# Altium integrated library Linear Technology PMIC-Switching Reg LT1074-LT8705.IntLib: 2252 symbols (part 71 of 124)
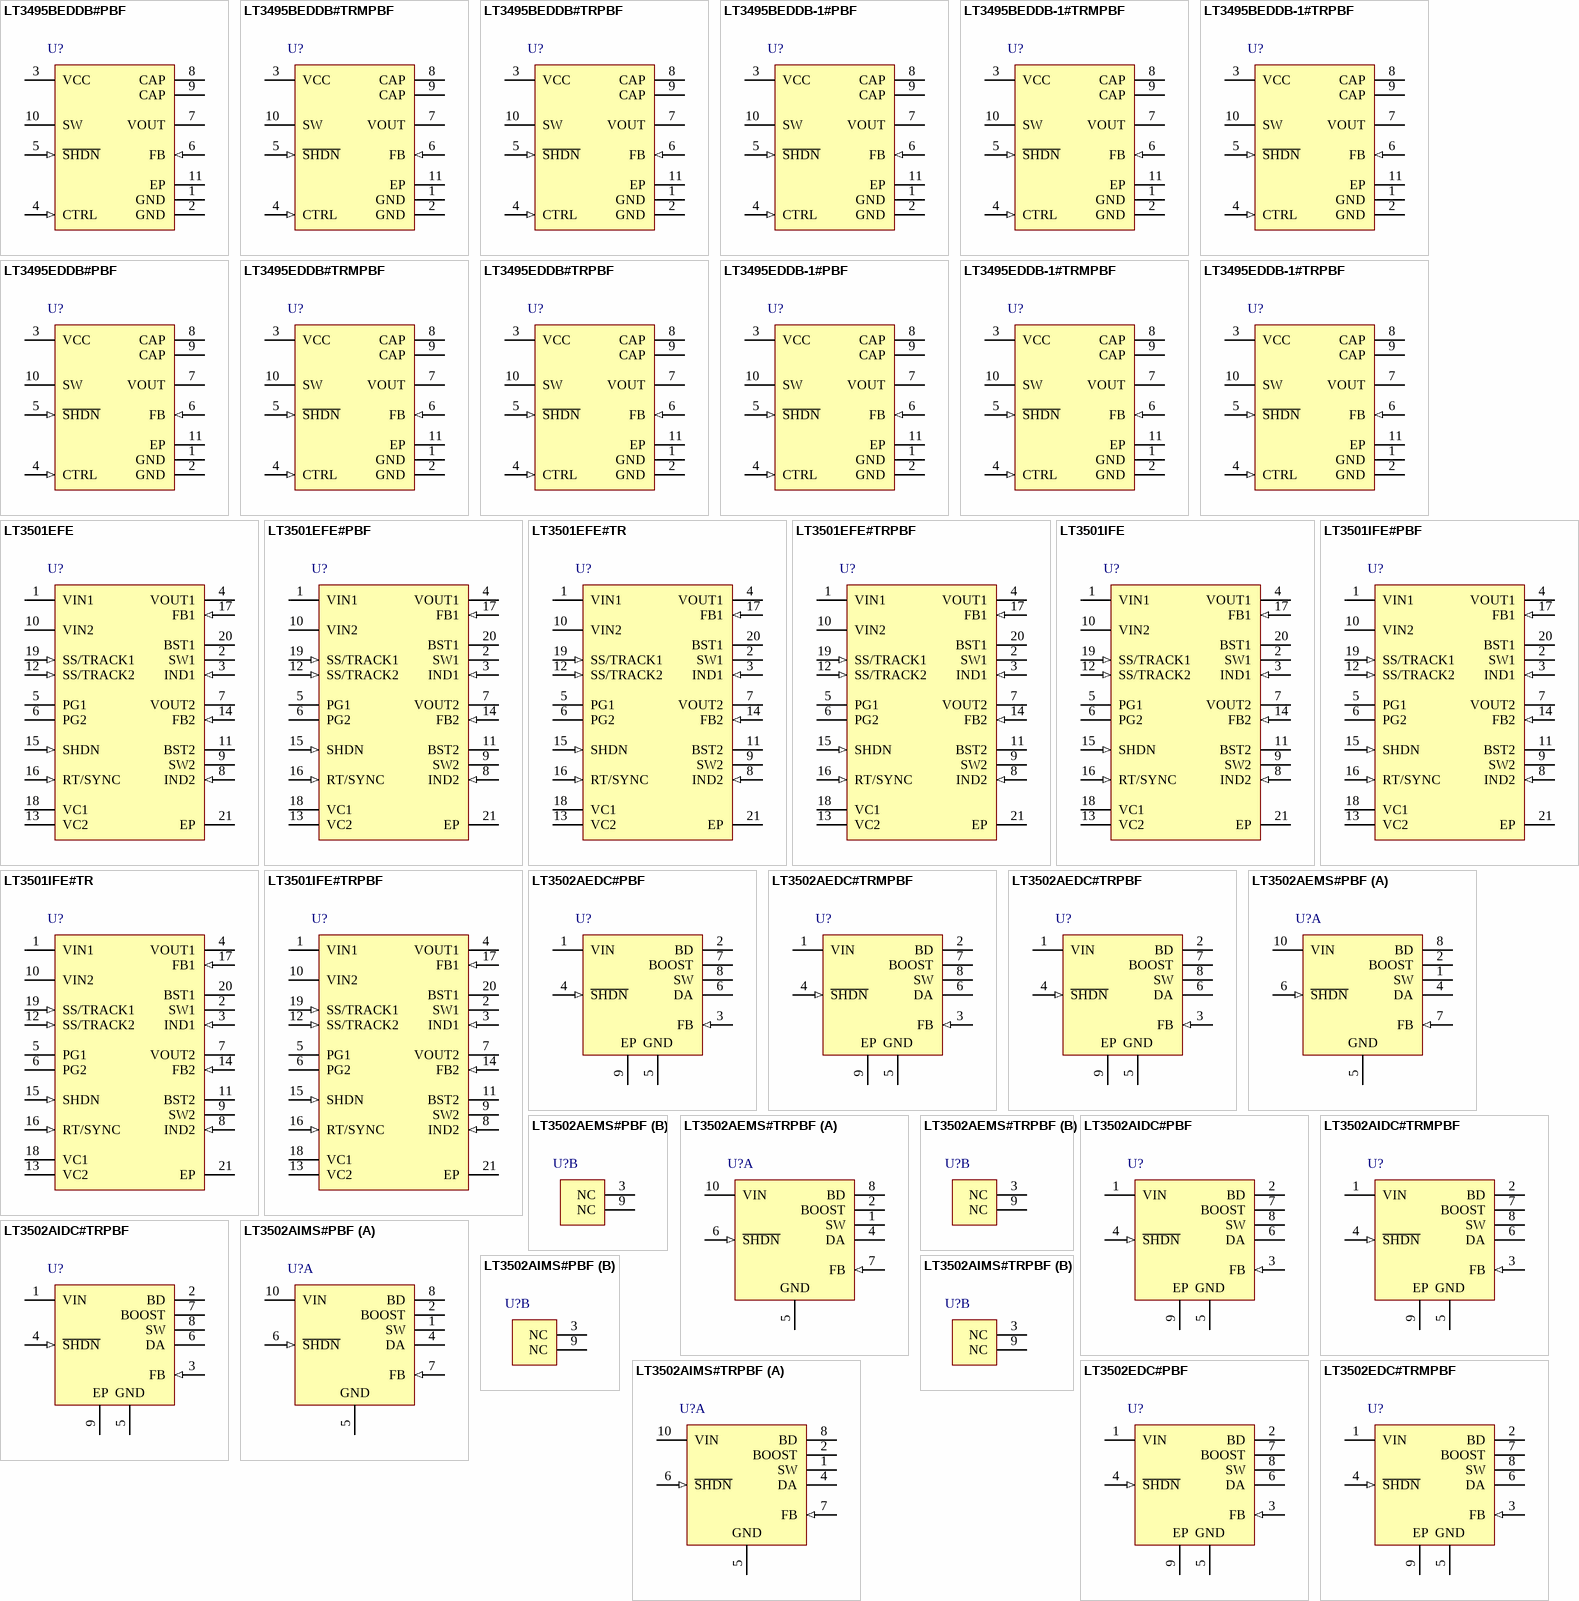
[diagram p141: symbols LT3495BEDDB#PBF to LT3502EDC#TRMPBF]

## LT3501IFE#PBF
designator U?
Monolithic Dual Tracking 3 A Step-Down Switching Regulator, 20-pin SOP (FE-20-EPV-CB), -40 to 125 degC, Pb-Free; Manufacturer: Linear Technology; PartNumber: LT3501IFE#PBF; Number of Outputs: 2; PackageReference: FE-20; PackageDescription: 20-Pin Plastic TSSOP, Body 6.5 x 4.4 mm, Pitch 0.65 mm; Supplier 1: Digi-Key; Supplier Part Number 1: LT3501IFE#PBF-ND; RoHS: TRUE
footprint LT-FE-20-EPV-CB_N (SOP, 20-Leads, Body 6.6x4.5mm, Pitch 0.65mm, Thermal Pad 3.86x2.74mm, IPC Medium Density)
footprint LT-FE-20-EPV-CB_L (SOP, 20-Leads, Body 6.6x4.5mm, Pitch 0.65mm, Thermal Pad 3.86x2.74mm, IPC High Density)
footprint LT-FE-20-EPV-CB_M (SOP, 20-Leads, Body 6.6x4.5mm, Pitch 0.65mm, Thermal Pad 3.86x2.74mm, IPC Low Density)
pins: 1 VIN1 (power) "The VIN1 pin powers the internal control circuitry for both channels and is monitored by the undervoltage lockout comparator. The VIN1 pin is also connected to the collector of channel 1’s on-chip power NPN switch. Th(See Datasheet)", 2 SW1 "The SW pin is the emitter of the onchip power NPN. At switch-off, the inductor will drive this pin below ground with a high dV/dt. An external Schottky catch diode to ground, close to the SW pin and respective VIN decoupling (See Datasheet)", 3 IND1 (in) "The IND pin is the input to the on-chip sense resistor that measures current flowing in the inductor. When the current in the resistor exceeds the current dictated by the VC pin, the SW latch is held in reset, disabling the (See Datasheet)", 4 VOUT1 (power) "The VOUT pin is the output to the on-chip sense resistor that measures current flowing in the inductor. When the current in the resistor exceeds the current dictated by the VC pin, the SW latch is held in reset, disabling (See Datasheet)", 5 PG1 (oc) "The power good pin is an open-collector output that sinks current when the feedback falls below 90% of its nominal regulating voltage. For VIN1 above 1V, its output state remains true, although during shutdown, VIN1 (See Datasheet)", 6 PG2 (oc) "The power good pin is an open-collector output that sinks current when the feedback falls below 90% of its nominal regulating voltage. For VIN1 above 1V, its output state remains true, although during shutdown, VIN1 (See Datasheet)", 7 VOUT2 (power) "The VOUT pin is the output to the on-chip sense resistor that measures current flowing in the inductor. When the current in the resistor exceeds the current dictated by the VC pin, the SW latch is held in reset, disabling (See Datasheet)", 8 IND2 (in) "The IND pin is the input to the on-chip sense resistor that measures current flowing in the inductor. When the current in the resistor exceeds the current dictated by the VC pin, the SW latch is held in reset, disabling the (See Datasheet)", 9 SW2 "The SW pin is the emitter of the onchip power NPN. At switch-off, the inductor will drive this pin below ground with a high dV/dt. An external Schottky catch diode to ground, close to the SW pin and respective VIN decoupling (See Datasheet)", 10 VIN2 (power) "The VIN2 pin is the collector of channel 2’s on-chip power NPN switch. This pin is independent of VIN1 and may be connected to the same or a separate supply. In either case, high dI/dt edges are present and decoupling t(See Datasheet)", 11 BST2 "The BST pin provides a higher than VIN base drive to the power NPN to ensure a low switch drop. A comparator to VIN imposes a minimum off-time on the SW pin if the BST pin voltage drops too low. Forcing a SW off-time allows (See Datasheet)", 12 SS/TRACK2 (in) "The SS1/2 pins control the softstart and sequence of their respective outputs. A single capacitor from the SS pin to ground determines the output ramp rate. For soft-start and output tracking/sequencing details, see the (See Datasheet)", 13 VC2 "The VC pin is the output of the error amplifier and the input to the peak switch current  comparator. It is normally used for frequency compensation, but can also be used as a current clamp or control loop override. If the (See Datasheet)", 14 FB2 (in) "The FB pin is the negative input to the error amplifier. The output switches regulate this pin to 0.8V, with respect to the exposed ground pad. Bias current flows out of the FB pin.", 15 SHDN (in) "The shutdown pin is used to turn off both channels and control circuitry to reduce quiescent current to a typical value of 9uA. The accurate 1.28V threshold and input current hysteresis can be used as an undervoltage (See Datasheet)", 16 RT/SYNC (in) "This RT/SYNC pin provides two modes of setting the constant switch frequency.", 17 FB1 (in) "The FB pin is the negative input to the error amplifier. The output switches regulate this pin to 0.8V, with respect to the exposed ground pad. Bias current flows out of the FB pin.", 18 VC1 "The VC pin is the output of the error amplifier and the input to the peak switch current  comparator. It is normally used for frequency compensation, but can also be used as a current clamp or control loop override. If the (See Datasheet)", 19 SS/TRACK1 (in) "The SS1/2 pins control the softstart and sequence of their respective outputs. A single capacitor from the SS pin to ground determines the output ramp rate. For soft-start and output tracking/sequencing details, see the (See Datasheet)", 20 BST1 "The BST pin provides a higher than VIN base drive to the power NPN to ensure a low switch drop. A comparator to VIN imposes a minimum off-time on the SW pin if the BST pin voltage drops too low. Forcing a SW off-time allows (See Datasheet)", 21 EP (power) "GND. The Exposed Pad GND pin is the only ground connection for the device. The Exposed Pad should be soldered to a large copper area to reduce thermal resistance. The GND pin is common to both channels and also serves as (See Datasheet)"

## LT3501IFE#TR
designator U?
Monolithic Dual Tracking 3 A Step-Down Switching Regulator, 20-pin SOP (FE-20-EPV-CB), -40 to 125 degC, Tape and Reel; Manufacturer: Linear Technology; PartNumber: LT3501IFE#TR; Number of Outputs: 2; PackageReference: FE-20; PackageDescription: 20-Pin Plastic TSSOP, Body 6.5 x 4.4 mm, Pitch 0.65 mm; Supplier 1: Newark; Supplier Part Number 1: 58M1028; RoHS: FALSE
footprint LT-FE-20-EPV-CB_N (SOP, 20-Leads, Body 6.6x4.5mm, Pitch 0.65mm, Thermal Pad 3.86x2.74mm, IPC Medium Density)
footprint LT-FE-20-EPV-CB_L (SOP, 20-Leads, Body 6.6x4.5mm, Pitch 0.65mm, Thermal Pad 3.86x2.74mm, IPC High Density)
footprint LT-FE-20-EPV-CB_M (SOP, 20-Leads, Body 6.6x4.5mm, Pitch 0.65mm, Thermal Pad 3.86x2.74mm, IPC Low Density)
pins: 1 VIN1 (power) "The VIN1 pin powers the internal control circuitry for both channels and is monitored by the undervoltage lockout comparator. The VIN1 pin is also connected to the collector of channel 1’s on-chip power NPN switch. Th(See Datasheet)", 2 SW1 "The SW pin is the emitter of the onchip power NPN. At switch-off, the inductor will drive this pin below ground with a high dV/dt. An external Schottky catch diode to ground, close to the SW pin and respective VIN decoupling (See Datasheet)", 3 IND1 (in) "The IND pin is the input to the on-chip sense resistor that measures current flowing in the inductor. When the current in the resistor exceeds the current dictated by the VC pin, the SW latch is held in reset, disabling the (See Datasheet)", 4 VOUT1 (power) "The VOUT pin is the output to the on-chip sense resistor that measures current flowing in the inductor. When the current in the resistor exceeds the current dictated by the VC pin, the SW latch is held in reset, disabling (See Datasheet)", 5 PG1 (oc) "The power good pin is an open-collector output that sinks current when the feedback falls below 90% of its nominal regulating voltage. For VIN1 above 1V, its output state remains true, although during shutdown, VIN1 (See Datasheet)", 6 PG2 (oc) "The power good pin is an open-collector output that sinks current when the feedback falls below 90% of its nominal regulating voltage. For VIN1 above 1V, its output state remains true, although during shutdown, VIN1 (See Datasheet)", 7 VOUT2 (power) "The VOUT pin is the output to the on-chip sense resistor that measures current flowing in the inductor. When the current in the resistor exceeds the current dictated by the VC pin, the SW latch is held in reset, disabling (See Datasheet)", 8 IND2 (in) "The IND pin is the input to the on-chip sense resistor that measures current flowing in the inductor. When the current in the resistor exceeds the current dictated by the VC pin, the SW latch is held in reset, disabling the (See Datasheet)", 9 SW2 "The SW pin is the emitter of the onchip power NPN. At switch-off, the inductor will drive this pin below ground with a high dV/dt. An external Schottky catch diode to ground, close to the SW pin and respective VIN decoupling (See Datasheet)", 10 VIN2 (power) "The VIN2 pin is the collector of channel 2’s on-chip power NPN switch. This pin is independent of VIN1 and may be connected to the same or a separate supply. In either case, high dI/dt edges are present and decoupling t(See Datasheet)", 11 BST2 "The BST pin provides a higher than VIN base drive to the power NPN to ensure a low switch drop. A comparator to VIN imposes a minimum off-time on the SW pin if the BST pin voltage drops too low. Forcing a SW off-time allows (See Datasheet)", 12 SS/TRACK2 (in) "The SS1/2 pins control the softstart and sequence of their respective outputs. A single capacitor from the SS pin to ground determines the output ramp rate. For soft-start and output tracking/sequencing details, see the (See Datasheet)", 13 VC2 "The VC pin is the output of the error amplifier and the input to the peak switch current  comparator. It is normally used for frequency compensation, but can also be used as a current clamp or control loop override. If the (See Datasheet)", 14 FB2 (in) "The FB pin is the negative input to the error amplifier. The output switches regulate this pin to 0.8V, with respect to the exposed ground pad. Bias current flows out of the FB pin.", 15 SHDN (in) "The shutdown pin is used to turn off both channels and control circuitry to reduce quiescent current to a typical value of 9uA. The accurate 1.28V threshold and input current hysteresis can be used as an undervoltage (See Datasheet)", 16 RT/SYNC (in) "This RT/SYNC pin provides two modes of setting the constant switch frequency.", 17 FB1 (in) "The FB pin is the negative input to the error amplifier. The output switches regulate this pin to 0.8V, with respect to the exposed ground pad. Bias current flows out of the FB pin.", 18 VC1 "The VC pin is the output of the error amplifier and the input to the peak switch current  comparator. It is normally used for frequency compensation, but can also be used as a current clamp or control loop override. If the (See Datasheet)", 19 SS/TRACK1 (in) "The SS1/2 pins control the softstart and sequence of their respective outputs. A single capacitor from the SS pin to ground determines the output ramp rate. For soft-start and output tracking/sequencing details, see the (See Datasheet)", 20 BST1 "The BST pin provides a higher than VIN base drive to the power NPN to ensure a low switch drop. A comparator to VIN imposes a minimum off-time on the SW pin if the BST pin voltage drops too low. Forcing a SW off-time allows (See Datasheet)", 21 EP (power) "GND. The Exposed Pad GND pin is the only ground connection for the device. The Exposed Pad should be soldered to a large copper area to reduce thermal resistance. The GND pin is common to both channels and also serves as (See Datasheet)"

## LT3501IFE#TRPBF
designator U?
Monolithic Dual Tracking 3 A Step-Down Switching Regulator, 20-pin SOP (FE-20-EPV-CB), -40 to 125 degC, Pb-Free, Tape and Reel; Manufacturer: Linear Technology; PartNumber: LT3501IFE#TRPBF; Number of Outputs: 2; PackageReference: FE-20; PackageDescription: 20-Pin Plastic TSSOP, Body 6.5 x 4.4 mm, Pitch 0.65 mm; Supplier 1: Digi-Key; Supplier Part Number 1: LT3501IFE#TRPBF-ND; RoHS: TRUE
footprint LT-FE-20-EPV-CB_N (SOP, 20-Leads, Body 6.6x4.5mm, Pitch 0.65mm, Thermal Pad 3.86x2.74mm, IPC Medium Density)
footprint LT-FE-20-EPV-CB_L (SOP, 20-Leads, Body 6.6x4.5mm, Pitch 0.65mm, Thermal Pad 3.86x2.74mm, IPC High Density)
footprint LT-FE-20-EPV-CB_M (SOP, 20-Leads, Body 6.6x4.5mm, Pitch 0.65mm, Thermal Pad 3.86x2.74mm, IPC Low Density)
pins: 1 VIN1 (power) "The VIN1 pin powers the internal control circuitry for both channels and is monitored by the undervoltage lockout comparator. The VIN1 pin is also connected to the collector of channel 1’s on-chip power NPN switch. Th(See Datasheet)", 2 SW1 "The SW pin is the emitter of the onchip power NPN. At switch-off, the inductor will drive this pin below ground with a high dV/dt. An external Schottky catch diode to ground, close to the SW pin and respective VIN decoupling (See Datasheet)", 3 IND1 (in) "The IND pin is the input to the on-chip sense resistor that measures current flowing in the inductor. When the current in the resistor exceeds the current dictated by the VC pin, the SW latch is held in reset, disabling the (See Datasheet)", 4 VOUT1 (power) "The VOUT pin is the output to the on-chip sense resistor that measures current flowing in the inductor. When the current in the resistor exceeds the current dictated by the VC pin, the SW latch is held in reset, disabling (See Datasheet)", 5 PG1 (oc) "The power good pin is an open-collector output that sinks current when the feedback falls below 90% of its nominal regulating voltage. For VIN1 above 1V, its output state remains true, although during shutdown, VIN1 (See Datasheet)", 6 PG2 (oc) "The power good pin is an open-collector output that sinks current when the feedback falls below 90% of its nominal regulating voltage. For VIN1 above 1V, its output state remains true, although during shutdown, VIN1 (See Datasheet)", 7 VOUT2 (power) "The VOUT pin is the output to the on-chip sense resistor that measures current flowing in the inductor. When the current in the resistor exceeds the current dictated by the VC pin, the SW latch is held in reset, disabling (See Datasheet)", 8 IND2 (in) "The IND pin is the input to the on-chip sense resistor that measures current flowing in the inductor. When the current in the resistor exceeds the current dictated by the VC pin, the SW latch is held in reset, disabling the (See Datasheet)", 9 SW2 "The SW pin is the emitter of the onchip power NPN. At switch-off, the inductor will drive this pin below ground with a high dV/dt. An external Schottky catch diode to ground, close to the SW pin and respective VIN decoupling (See Datasheet)", 10 VIN2 (power) "The VIN2 pin is the collector of channel 2’s on-chip power NPN switch. This pin is independent of VIN1 and may be connected to the same or a separate supply. In either case, high dI/dt edges are present and decoupling t(See Datasheet)", 11 BST2 "The BST pin provides a higher than VIN base drive to the power NPN to ensure a low switch drop. A comparator to VIN imposes a minimum off-time on the SW pin if the BST pin voltage drops too low. Forcing a SW off-time allows (See Datasheet)", 12 SS/TRACK2 (in) "The SS1/2 pins control the softstart and sequence of their respective outputs. A single capacitor from the SS pin to ground determines the output ramp rate. For soft-start and output tracking/sequencing details, see the (See Datasheet)", 13 VC2 "The VC pin is the output of the error amplifier and the input to the peak switch current  comparator. It is normally used for frequency compensation, but can also be used as a current clamp or control loop override. If the (See Datasheet)", 14 FB2 (in) "The FB pin is the negative input to the error amplifier. The output switches regulate this pin to 0.8V, with respect to the exposed ground pad. Bias current flows out of the FB pin.", 15 SHDN (in) "The shutdown pin is used to turn off both channels and control circuitry to reduce quiescent current to a typical value of 9uA. The accurate 1.28V threshold and input current hysteresis can be used as an undervoltage (See Datasheet)", 16 RT/SYNC (in) "This RT/SYNC pin provides two modes of setting the constant switch frequency.", 17 FB1 (in) "The FB pin is the negative input to the error amplifier. The output switches regulate this pin to 0.8V, with respect to the exposed ground pad. Bias current flows out of the FB pin.", 18 VC1 "The VC pin is the output of the error amplifier and the input to the peak switch current  comparator. It is normally used for frequency compensation, but can also be used as a current clamp or control loop override. If the (See Datasheet)", 19 SS/TRACK1 (in) "The SS1/2 pins control the softstart and sequence of their respective outputs. A single capacitor from the SS pin to ground determines the output ramp rate. For soft-start and output tracking/sequencing details, see the (See Datasheet)", 20 BST1 "The BST pin provides a higher than VIN base drive to the power NPN to ensure a low switch drop. A comparator to VIN imposes a minimum off-time on the SW pin if the BST pin voltage drops too low. Forcing a SW off-time allows (See Datasheet)", 21 EP (power) "GND. The Exposed Pad GND pin is the only ground connection for the device. The Exposed Pad should be soldered to a large copper area to reduce thermal resistance. The GND pin is common to both channels and also serves as (See Datasheet)"

## LT3502AEDC#PBF
designator U?
1.1 MHz / 2.2 MHz, 500 mA Step-Down Regulator, 8-pin SON (DC8), -40 to 125 degC, Pb-Free; Manufacturer: Linear Technology; PartNumber: LT3502AEDC#PBF; Number of Outputs: 1; PackageReference: DC8; PackageDescription: 8-Pin Plastic DFN, Body 2 x 2 mm, Pitch 0.45 mm; Supplier 1: Farnell; Supplier Part Number 1: 2294920; RoHS: TRUE
footprint LT-DC8_V (SON, 8-Leads, Body 2x2mm, Pitch 0.45mm, Thermal Pad 1.37x0.64mm, Recommended)
pins: 1 VIN (power) "The VIN pin supplies current to the LT3502/LT3502A’s internal regulator and to the internal power switch. This pin must be locally bypassed.", 2 BD (power) "The BD pin is used to provide current to the internal boost Schottky diode.", 3 FB (in) "The LT3502/LT3502A regulate their feedback pin to 0.8V. Connect the feedback resistor divider tap to this pin. Set the output voltage according to VOUT = 0.8 (1 + R1/R2). A good value for R2 is 10k.", 4 ~{SHDN} (in) "The S\H\D\N\ pin is used to put the LT3502 in shutdown mode. Tie to ground to shut down the LT3502/LT3502A. Tie to 2V or more for normal operation. If the shutdown feature is not used, tie this pin to the VIN pin. The (See Datasheet)", 5 GND (power) "Ground Pin.", 6 DA "Connect the catch diode (D1) anode to this pin. This pin is used to provide frequency foldback in extreme situations.", 7 BOOST "The BOOST pin is used to provide a drive voltage, higher than the input voltage, to the internal bipolar NPN power switch. Connect a boost capacitor from this pin to SW Pin.", 8 SW (power) "The SW pin is the output of the internal power switch. Connect this pin to the inductor, catch diode and boost capacitor.", 9 EP (power) "EXPOSED PAD (PIN 9) IS GND, MUST BE SOLDERED TO PCB"

## LT3502AEDC#TRMPBF
designator U?
1.1 MHz / 2.2 MHz, 500 mA Step-Down Regulator, 8-pin SON (DC8), -40 to 125 degC, Pb-Free, Mini Tape and Reel; Manufacturer: Linear Technology; PartNumber: LT3502AEDC#TRMPBF; Number of Outputs: 1; PackageReference: DC8; PackageDescription: 8-Pin Plastic DFN, Body 2 x 2 mm, Pitch 0.45 mm; Supplier 1: Digi-Key; Supplier Part Number 1: LT3502AEDC#TRMPBFTR-ND; RoHS: TRUE
footprint LT-DC8_V (SON, 8-Leads, Body 2x2mm, Pitch 0.45mm, Thermal Pad 1.37x0.64mm, Recommended)
pins: 1 VIN (power) "The VIN pin supplies current to the LT3502/LT3502A’s internal regulator and to the internal power switch. This pin must be locally bypassed.", 2 BD (power) "The BD pin is used to provide current to the internal boost Schottky diode.", 3 FB (in) "The LT3502/LT3502A regulate their feedback pin to 0.8V. Connect the feedback resistor divider tap to this pin. Set the output voltage according to VOUT = 0.8 (1 + R1/R2). A good value for R2 is 10k.", 4 ~{SHDN} (in) "The S\H\D\N\ pin is used to put the LT3502 in shutdown mode. Tie to ground to shut down the LT3502/LT3502A. Tie to 2V or more for normal operation. If the shutdown feature is not used, tie this pin to the VIN pin. The (See Datasheet)", 5 GND (power) "Ground Pin.", 6 DA "Connect the catch diode (D1) anode to this pin. This pin is used to provide frequency foldback in extreme situations.", 7 BOOST "The BOOST pin is used to provide a drive voltage, higher than the input voltage, to the internal bipolar NPN power switch. Connect a boost capacitor from this pin to SW Pin.", 8 SW (power) "The SW pin is the output of the internal power switch. Connect this pin to the inductor, catch diode and boost capacitor.", 9 EP (power) "EXPOSED PAD (PIN 9) IS GND, MUST BE SOLDERED TO PCB"

## LT3502AEDC#TRPBF
designator U?
1.1 MHz / 2.2 MHz, 500 mA Step-Down Regulator, 8-pin SON (DC8), -40 to 125 degC, Pb-Free, Tape and Reel; Manufacturer: Linear Technology; PartNumber: LT3502AEDC#TRPBF; Number of Outputs: 1; PackageReference: DC8; PackageDescription: 8-Pin Plastic DFN, Body 2 x 2 mm, Pitch 0.45 mm; Supplier 1: Digi-Key; Supplier Part Number 1: LT3502AEDC#TRPBF-ND; RoHS: TRUE
footprint LT-DC8_V (SON, 8-Leads, Body 2x2mm, Pitch 0.45mm, Thermal Pad 1.37x0.64mm, Recommended)
pins: 1 VIN (power) "The VIN pin supplies current to the LT3502/LT3502A’s internal regulator and to the internal power switch. This pin must be locally bypassed.", 2 BD (power) "The BD pin is used to provide current to the internal boost Schottky diode.", 3 FB (in) "The LT3502/LT3502A regulate their feedback pin to 0.8V. Connect the feedback resistor divider tap to this pin. Set the output voltage according to VOUT = 0.8 (1 + R1/R2). A good value for R2 is 10k.", 4 ~{SHDN} (in) "The S\H\D\N\ pin is used to put the LT3502 in shutdown mode. Tie to ground to shut down the LT3502/LT3502A. Tie to 2V or more for normal operation. If the shutdown feature is not used, tie this pin to the VIN pin. The (See Datasheet)", 5 GND (power) "Ground Pin.", 6 DA "Connect the catch diode (D1) anode to this pin. This pin is used to provide frequency foldback in extreme situations.", 7 BOOST "The BOOST pin is used to provide a drive voltage, higher than the input voltage, to the internal bipolar NPN power switch. Connect a boost capacitor from this pin to SW Pin.", 8 SW (power) "The SW pin is the output of the internal power switch. Connect this pin to the inductor, catch diode and boost capacitor.", 9 EP (power) "EXPOSED PAD (PIN 9) IS GND, MUST BE SOLDERED TO PCB"

## LT3502AEMS#PBF
designator U?
1.1 MHz / 2.2 MHz, 500 mA Step-Down Regulator, 10-pin SOP (MS-10), -40 to 125 degC, Pb-Free; Manufacturer: Linear Technology; PartNumber: LT3502AEMS#PBF; Number of Outputs: 1; PackageReference: MS-10; PackageDescription: 10-Pin Plastic MSOP, Body 3 x 3 mm, Pitch 0.5 mm; Supplier 1: Digi-Key; Supplier Part Number 1: LT3502AEMS#PBF-ND; RoHS: TRUE
footprint LT-MS-10_N (SOP, 10-Leads, Body 3.1x3.1mm, Pitch 0.5mm, IPC Medium Density)
footprint LT-MS-10_L (SOP, 10-Leads, Body 3.1x3.1mm, Pitch 0.5mm, IPC High Density)
footprint LT-MS-10_M (SOP, 10-Leads, Body 3.1x3.1mm, Pitch 0.5mm, IPC Low Density)
part A pins: 1 SW (power) "The SW pin is the output of the internal power switch. Connect this pin to the inductor, catch diode and boost capacitor.", 2 BOOST "The BOOST pin is used to provide a drive voltage, higher than the input voltage, to the internal bipolar NPN power switch. Connect a boost capacitor from this pin to SW Pin.", 4 DA "Connect the catch diode (D1) anode to this pin. This pin is used to provide frequency foldback in extreme situations.", 5 GND (power) "Ground Pin.", 6 ~{SHDN} (in) "The S\H\D\N\ pin is used to put the LT3502 in shutdown mode. Tie to ground to shut down the LT3502/LT3502A. Tie to 2V or more for normal operation. If the shutdown feature is not used, tie this pin to the VIN pin. The (See Datasheet)", 7 FB (in) "The LT3502/LT3502A regulate their feedback pin to 0.8V. Connect the feedback resistor divider tap to this pin. Set the output voltage according to VOUT = 0.8 (1 + R1/R2). A good value for R2 is 10k.", 8 BD (power) "The BD pin is used to provide current to the internal boost Schottky diode.", 10 VIN (power) "The VIN pin supplies current to the LT3502/LT3502A’s internal regulator and to the internal power switch. This pin must be locally bypassed."
part B pins: 3 NC, 9 NC

## LT3502AEMS#TRPBF
designator U?
1.1 MHz / 2.2 MHz, 500 mA Step-Down Regulator, 10-pin SOP (MS-10), -40 to 125 degC, Pb-Free, Tape and Reel; Manufacturer: Linear Technology; PartNumber: LT3502AEMS#TRPBF; Number of Outputs: 1; PackageReference: MS-10; PackageDescription: 10-Pin Plastic MSOP, Body 3 x 3 mm, Pitch 0.5 mm; Supplier 1: Digi-Key; Supplier Part Number 1: LT3502AEMS#TRPBF-ND; RoHS: TRUE
footprint LT-MS-10_N (SOP, 10-Leads, Body 3.1x3.1mm, Pitch 0.5mm, IPC Medium Density)
footprint LT-MS-10_L (SOP, 10-Leads, Body 3.1x3.1mm, Pitch 0.5mm, IPC High Density)
footprint LT-MS-10_M (SOP, 10-Leads, Body 3.1x3.1mm, Pitch 0.5mm, IPC Low Density)
part A pins: 1 SW (power) "The SW pin is the output of the internal power switch. Connect this pin to the inductor, catch diode and boost capacitor.", 2 BOOST "The BOOST pin is used to provide a drive voltage, higher than the input voltage, to the internal bipolar NPN power switch. Connect a boost capacitor from this pin to SW Pin.", 4 DA "Connect the catch diode (D1) anode to this pin. This pin is used to provide frequency foldback in extreme situations.", 5 GND (power) "Ground Pin.", 6 ~{SHDN} (in) "The S\H\D\N\ pin is used to put the LT3502 in shutdown mode. Tie to ground to shut down the LT3502/LT3502A. Tie to 2V or more for normal operation. If the shutdown feature is not used, tie this pin to the VIN pin. The (See Datasheet)", 7 FB (in) "The LT3502/LT3502A regulate their feedback pin to 0.8V. Connect the feedback resistor divider tap to this pin. Set the output voltage according to VOUT = 0.8 (1 + R1/R2). A good value for R2 is 10k.", 8 BD (power) "The BD pin is used to provide current to the internal boost Schottky diode.", 10 VIN (power) "The VIN pin supplies current to the LT3502/LT3502A’s internal regulator and to the internal power switch. This pin must be locally bypassed."
part B pins: 3 NC, 9 NC

## LT3502AIDC#PBF
designator U?
1.1 MHz / 2.2 MHz, 500 mA Step-Down Regulator, 8-pin SON (DC8), -40 to 125 degC, Pb-Free; Manufacturer: Linear Technology; PartNumber: LT3502AIDC#PBF; Number of Outputs: 1; PackageReference: DC8; PackageDescription: 8-Pin Plastic DFN, Body 2 x 2 mm, Pitch 0.45 mm; Supplier 1: Farnell; Supplier Part Number 1: 2308611; RoHS: TRUE
footprint LT-DC8_V (SON, 8-Leads, Body 2x2mm, Pitch 0.45mm, Thermal Pad 1.37x0.64mm, Recommended)
pins: 1 VIN (power) "The VIN pin supplies current to the LT3502/LT3502A’s internal regulator and to the internal power switch. This pin must be locally bypassed.", 2 BD (power) "The BD pin is used to provide current to the internal boost Schottky diode.", 3 FB (in) "The LT3502/LT3502A regulate their feedback pin to 0.8V. Connect the feedback resistor divider tap to this pin. Set the output voltage according to VOUT = 0.8 (1 + R1/R2). A good value for R2 is 10k.", 4 ~{SHDN} (in) "The S\H\D\N\ pin is used to put the LT3502 in shutdown mode. Tie to ground to shut down the LT3502/LT3502A. Tie to 2V or more for normal operation. If the shutdown feature is not used, tie this pin to the VIN pin. The (See Datasheet)", 5 GND (power) "Ground Pin.", 6 DA "Connect the catch diode (D1) anode to this pin. This pin is used to provide frequency foldback in extreme situations.", 7 BOOST "The BOOST pin is used to provide a drive voltage, higher than the input voltage, to the internal bipolar NPN power switch. Connect a boost capacitor from this pin to SW Pin.", 8 SW (power) "The SW pin is the output of the internal power switch. Connect this pin to the inductor, catch diode and boost capacitor.", 9 EP (power) "EXPOSED PAD (PIN 9) IS GND, MUST BE SOLDERED TO PCB"

## LT3502AIDC#TRMPBF
designator U?
1.1 MHz / 2.2 MHz, 500 mA Step-Down Regulator, 8-pin SON (DC8), -40 to 125 degC, Pb-Free, Mini Tape and Reel; Manufacturer: Linear Technology; PartNumber: LT3502AIDC#TRMPBF; Number of Outputs: 1; PackageReference: DC8; PackageDescription: 8-Pin Plastic DFN, Body 2 x 2 mm, Pitch 0.45 mm; Supplier 1: Digi-Key; Supplier Part Number 1: LT3502AIDC#TRMPBFTR-ND; RoHS: TRUE
footprint LT-DC8_V (SON, 8-Leads, Body 2x2mm, Pitch 0.45mm, Thermal Pad 1.37x0.64mm, Recommended)
pins: 1 VIN (power) "The VIN pin supplies current to the LT3502/LT3502A’s internal regulator and to the internal power switch. This pin must be locally bypassed.", 2 BD (power) "The BD pin is used to provide current to the internal boost Schottky diode.", 3 FB (in) "The LT3502/LT3502A regulate their feedback pin to 0.8V. Connect the feedback resistor divider tap to this pin. Set the output voltage according to VOUT = 0.8 (1 + R1/R2). A good value for R2 is 10k.", 4 ~{SHDN} (in) "The S\H\D\N\ pin is used to put the LT3502 in shutdown mode. Tie to ground to shut down the LT3502/LT3502A. Tie to 2V or more for normal operation. If the shutdown feature is not used, tie this pin to the VIN pin. The (See Datasheet)", 5 GND (power) "Ground Pin.", 6 DA "Connect the catch diode (D1) anode to this pin. This pin is used to provide frequency foldback in extreme situations.", 7 BOOST "The BOOST pin is used to provide a drive voltage, higher than the input voltage, to the internal bipolar NPN power switch. Connect a boost capacitor from this pin to SW Pin.", 8 SW (power) "The SW pin is the output of the internal power switch. Connect this pin to the inductor, catch diode and boost capacitor.", 9 EP (power) "EXPOSED PAD (PIN 9) IS GND, MUST BE SOLDERED TO PCB"

## LT3502AIDC#TRPBF
designator U?
1.1 MHz / 2.2 MHz, 500 mA Step-Down Regulator, 8-pin SON (DC8), -40 to 125 degC, Pb-Free, Tape and Reel; Manufacturer: Linear Technology; PartNumber: LT3502AIDC#TRPBF; Number of Outputs: 1; PackageReference: DC8; PackageDescription: 8-Pin Plastic DFN, Body 2 x 2 mm, Pitch 0.45 mm; Supplier 1: Digi-Key; Supplier Part Number 1: LT3502AIDC#TRPBF-ND; RoHS: TRUE
footprint LT-DC8_V (SON, 8-Leads, Body 2x2mm, Pitch 0.45mm, Thermal Pad 1.37x0.64mm, Recommended)
pins: 1 VIN (power) "The VIN pin supplies current to the LT3502/LT3502A’s internal regulator and to the internal power switch. This pin must be locally bypassed.", 2 BD (power) "The BD pin is used to provide current to the internal boost Schottky diode.", 3 FB (in) "The LT3502/LT3502A regulate their feedback pin to 0.8V. Connect the feedback resistor divider tap to this pin. Set the output voltage according to VOUT = 0.8 (1 + R1/R2). A good value for R2 is 10k.", 4 ~{SHDN} (in) "The S\H\D\N\ pin is used to put the LT3502 in shutdown mode. Tie to ground to shut down the LT3502/LT3502A. Tie to 2V or more for normal operation. If the shutdown feature is not used, tie this pin to the VIN pin. The (See Datasheet)", 5 GND (power) "Ground Pin.", 6 DA "Connect the catch diode (D1) anode to this pin. This pin is used to provide frequency foldback in extreme situations.", 7 BOOST "The BOOST pin is used to provide a drive voltage, higher than the input voltage, to the internal bipolar NPN power switch. Connect a boost capacitor from this pin to SW Pin.", 8 SW (power) "The SW pin is the output of the internal power switch. Connect this pin to the inductor, catch diode and boost capacitor.", 9 EP (power) "EXPOSED PAD (PIN 9) IS GND, MUST BE SOLDERED TO PCB"

## LT3502AIMS#PBF
designator U?
1.1 MHz / 2.2 MHz, 500 mA Step-Down Regulator, 10-pin SOP (MS-10), -40 to 125 degC, Pb-Free; Manufacturer: Linear Technology; PartNumber: LT3502AIMS#PBF; Number of Outputs: 1; PackageReference: MS-10; PackageDescription: 10-Pin Plastic MSOP, Body 3 x 3 mm, Pitch 0.5 mm; Supplier 1: Digi-Key; Supplier Part Number 1: LT3502AIMS#PBF-ND; RoHS: TRUE
footprint LT-MS-10_N (SOP, 10-Leads, Body 3.1x3.1mm, Pitch 0.5mm, IPC Medium Density)
footprint LT-MS-10_L (SOP, 10-Leads, Body 3.1x3.1mm, Pitch 0.5mm, IPC High Density)
footprint LT-MS-10_M (SOP, 10-Leads, Body 3.1x3.1mm, Pitch 0.5mm, IPC Low Density)
part A pins: 1 SW (power) "The SW pin is the output of the internal power switch. Connect this pin to the inductor, catch diode and boost capacitor.", 2 BOOST "The BOOST pin is used to provide a drive voltage, higher than the input voltage, to the internal bipolar NPN power switch. Connect a boost capacitor from this pin to SW Pin.", 4 DA "Connect the catch diode (D1) anode to this pin. This pin is used to provide frequency foldback in extreme situations.", 5 GND (power) "Ground Pin.", 6 ~{SHDN} (in) "The S\H\D\N\ pin is used to put the LT3502 in shutdown mode. Tie to ground to shut down the LT3502/LT3502A. Tie to 2V or more for normal operation. If the shutdown feature is not used, tie this pin to the VIN pin. The (See Datasheet)", 7 FB (in) "The LT3502/LT3502A regulate their feedback pin to 0.8V. Connect the feedback resistor divider tap to this pin. Set the output voltage according to VOUT = 0.8 (1 + R1/R2). A good value for R2 is 10k.", 8 BD (power) "The BD pin is used to provide current to the internal boost Schottky diode.", 10 VIN (power) "The VIN pin supplies current to the LT3502/LT3502A’s internal regulator and to the internal power switch. This pin must be locally bypassed."
part B pins: 3 NC, 9 NC

## LT3502AIMS#TRPBF
designator U?
1.1 MHz / 2.2 MHz, 500 mA Step-Down Regulator, 10-pin SOP (MS-10), -40 to 125 degC, Pb-Free, Tape and Reel; Manufacturer: Linear Technology; PartNumber: LT3502AIMS#TRPBF; Number of Outputs: 1; PackageReference: MS-10; PackageDescription: 10-Pin Plastic MSOP, Body 3 x 3 mm, Pitch 0.5 mm; Supplier 1: Digi-Key; Supplier Part Number 1: LT3502AIMS#TRPBF-ND; RoHS: TRUE
footprint LT-MS-10_N (SOP, 10-Leads, Body 3.1x3.1mm, Pitch 0.5mm, IPC Medium Density)
footprint LT-MS-10_L (SOP, 10-Leads, Body 3.1x3.1mm, Pitch 0.5mm, IPC High Density)
footprint LT-MS-10_M (SOP, 10-Leads, Body 3.1x3.1mm, Pitch 0.5mm, IPC Low Density)
part A pins: 1 SW (power) "The SW pin is the output of the internal power switch. Connect this pin to the inductor, catch diode and boost capacitor.", 2 BOOST "The BOOST pin is used to provide a drive voltage, higher than the input voltage, to the internal bipolar NPN power switch. Connect a boost capacitor from this pin to SW Pin.", 4 DA "Connect the catch diode (D1) anode to this pin. This pin is used to provide frequency foldback in extreme situations.", 5 GND (power) "Ground Pin.", 6 ~{SHDN} (in) "The S\H\D\N\ pin is used to put the LT3502 in shutdown mode. Tie to ground to shut down the LT3502/LT3502A. Tie to 2V or more for normal operation. If the shutdown feature is not used, tie this pin to the VIN pin. The (See Datasheet)", 7 FB (in) "The LT3502/LT3502A regulate their feedback pin to 0.8V. Connect the feedback resistor divider tap to this pin. Set the output voltage according to VOUT = 0.8 (1 + R1/R2). A good value for R2 is 10k.", 8 BD (power) "The BD pin is used to provide current to the internal boost Schottky diode.", 10 VIN (power) "The VIN pin supplies current to the LT3502/LT3502A’s internal regulator and to the internal power switch. This pin must be locally bypassed."
part B pins: 3 NC, 9 NC

## LT3502EDC#PBF
designator U?
1.1 MHz / 2.2 MHz, 500 mA Step-Down Regulator, 8-pin SON (DC8), -40 to 125 degC, Pb-Free; Manufacturer: Linear Technology; PartNumber: LT3502EDC#PBF; Number of Outputs: 1; PackageReference: DC8; PackageDescription: 8-Pin Plastic DFN, Body 2 x 2 mm, Pitch 0.45 mm; Supplier 1: Farnell; Supplier Part Number 1: 2294923; RoHS: TRUE
footprint LT-DC8_V (SON, 8-Leads, Body 2x2mm, Pitch 0.45mm, Thermal Pad 1.37x0.64mm, Recommended)
pins: 1 VIN (power) "The VIN pin supplies current to the LT3502/LT3502A’s internal regulator and to the internal power switch. This pin must be locally bypassed.", 2 BD (power) "The BD pin is used to provide current to the internal boost Schottky diode.", 3 FB (in) "The LT3502/LT3502A regulate their feedback pin to 0.8V. Connect the feedback resistor divider tap to this pin. Set the output voltage according to VOUT = 0.8 (1 + R1/R2). A good value for R2 is 10k.", 4 ~{SHDN} (in) "The S\H\D\N\ pin is used to put the LT3502 in shutdown mode. Tie to ground to shut down the LT3502/LT3502A. Tie to 2V or more for normal operation. If the shutdown feature is not used, tie this pin to the VIN pin. The (See Datasheet)", 5 GND (power) "Ground Pin.", 6 DA "Connect the catch diode (D1) anode to this pin. This pin is used to provide frequency foldback in extreme situations.", 7 BOOST "The BOOST pin is used to provide a drive voltage, higher than the input voltage, to the internal bipolar NPN power switch. Connect a boost capacitor from this pin to SW Pin.", 8 SW (power) "The SW pin is the output of the internal power switch. Connect this pin to the inductor, catch diode and boost capacitor.", 9 EP (power) "EXPOSED PAD (PIN 9) IS GND, MUST BE SOLDERED TO PCB"

## LT3502EDC#TRMPBF
designator U?
1.1 MHz / 2.2 MHz, 500 mA Step-Down Regulator, 8-pin SON (DC8), -40 to 125 degC, Pb-Free, Mini Tape and Reel; Manufacturer: Linear Technology; PartNumber: LT3502EDC#TRMPBF; Number of Outputs: 1; PackageReference: DC8; PackageDescription: 8-Pin Plastic DFN, Body 2 x 2 mm, Pitch 0.45 mm; Supplier 1: Digi-Key; Supplier Part Number 1: LT3502EDC#TRMPBFTR-ND; RoHS: TRUE
footprint LT-DC8_V (SON, 8-Leads, Body 2x2mm, Pitch 0.45mm, Thermal Pad 1.37x0.64mm, Recommended)
pins: 1 VIN (power) "The VIN pin supplies current to the LT3502/LT3502A’s internal regulator and to the internal power switch. This pin must be locally bypassed.", 2 BD (power) "The BD pin is used to provide current to the internal boost Schottky diode.", 3 FB (in) "The LT3502/LT3502A regulate their feedback pin to 0.8V. Connect the feedback resistor divider tap to this pin. Set the output voltage according to VOUT = 0.8 (1 + R1/R2). A good value for R2 is 10k.", 4 ~{SHDN} (in) "The S\H\D\N\ pin is used to put the LT3502 in shutdown mode. Tie to ground to shut down the LT3502/LT3502A. Tie to 2V or more for normal operation. If the shutdown feature is not used, tie this pin to the VIN pin. The (See Datasheet)", 5 GND (power) "Ground Pin.", 6 DA "Connect the catch diode (D1) anode to this pin. This pin is used to provide frequency foldback in extreme situations.", 7 BOOST "The BOOST pin is used to provide a drive voltage, higher than the input voltage, to the internal bipolar NPN power switch. Connect a boost capacitor from this pin to SW Pin.", 8 SW (power) "The SW pin is the output of the internal power switch. Connect this pin to the inductor, catch diode and boost capacitor.", 9 EP (power) "EXPOSED PAD (PIN 9) IS GND, MUST BE SOLDERED TO PCB"

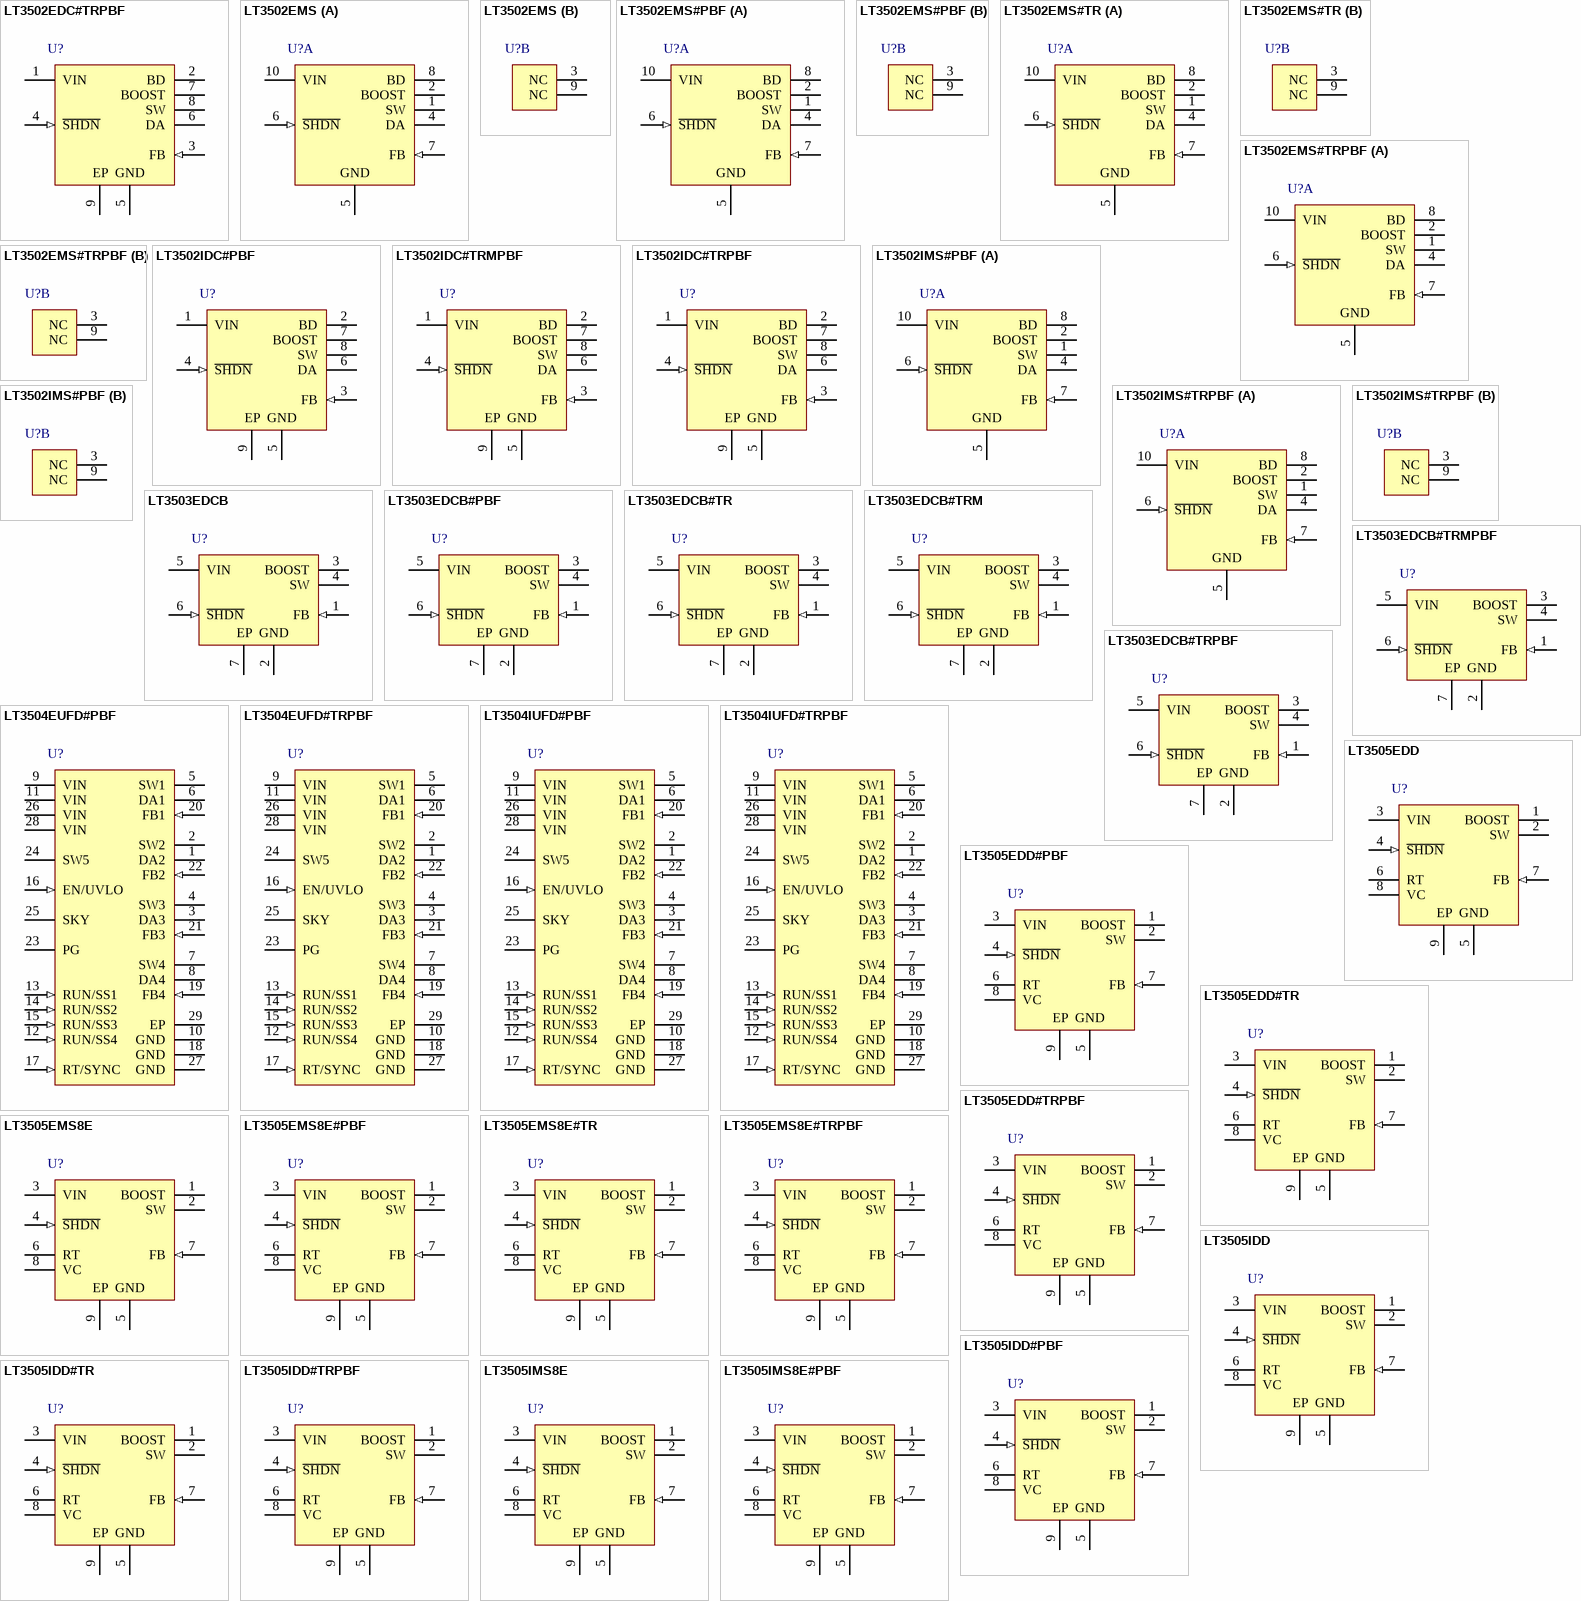
[diagram p44: symbols LT3502EDC#TRPBF to LT3505IMS8E#PBF]

## LT3502EDC#TRPBF
designator U?
1.1 MHz / 2.2 MHz, 500 mA Step-Down Regulator, 8-pin SON (DC8), -40 to 125 degC, Pb-Free, Tape and Reel; Manufacturer: Linear Technology; PartNumber: LT3502EDC#TRPBF; Number of Outputs: 1; PackageReference: DC8; PackageDescription: 8-Pin Plastic DFN, Body 2 x 2 mm, Pitch 0.45 mm; Supplier 1: Digi-Key; Supplier Part Number 1: LT3502EDC#TRPBF-ND; RoHS: TRUE
footprint LT-DC8_V (SON, 8-Leads, Body 2x2mm, Pitch 0.45mm, Thermal Pad 1.37x0.64mm, Recommended)
pins: 1 VIN (power) "The VIN pin supplies current to the LT3502/LT3502A’s internal regulator and to the internal power switch. This pin must be locally bypassed.", 2 BD (power) "The BD pin is used to provide current to the internal boost Schottky diode.", 3 FB (in) "The LT3502/LT3502A regulate their feedback pin to 0.8V. Connect the feedback resistor divider tap to this pin. Set the output voltage according to VOUT = 0.8 (1 + R1/R2). A good value for R2 is 10k.", 4 ~{SHDN} (in) "The S\H\D\N\ pin is used to put the LT3502 in shutdown mode. Tie to ground to shut down the LT3502/LT3502A. Tie to 2V or more for normal operation. If the shutdown feature is not used, tie this pin to the VIN pin. The (See Datasheet)", 5 GND (power) "Ground Pin.", 6 DA "Connect the catch diode (D1) anode to this pin. This pin is used to provide frequency foldback in extreme situations.", 7 BOOST "The BOOST pin is used to provide a drive voltage, higher than the input voltage, to the internal bipolar NPN power switch. Connect a boost capacitor from this pin to SW Pin.", 8 SW (power) "The SW pin is the output of the internal power switch. Connect this pin to the inductor, catch diode and boost capacitor.", 9 EP (power) "EXPOSED PAD (PIN 9) IS GND, MUST BE SOLDERED TO PCB"

## LT3502EMS
designator U?
1.1 MHz / 2.2 MHz, 500 mA Step-Down Regulator, 10-pin SOP (MS-10), -40 to 125 degC; Manufacturer: Linear Technology; PartNumber: LT3502EMS; Number of Outputs: 1; PackageReference: MS-10; PackageDescription: 10-Pin Plastic MSOP, Body 3 x 3 mm, Pitch 0.5 mm; RoHS: FALSE
footprint LT-MS-10_N (SOP, 10-Leads, Body 3.1x3.1mm, Pitch 0.5mm, IPC Medium Density)
footprint LT-MS-10_L (SOP, 10-Leads, Body 3.1x3.1mm, Pitch 0.5mm, IPC High Density)
footprint LT-MS-10_M (SOP, 10-Leads, Body 3.1x3.1mm, Pitch 0.5mm, IPC Low Density)
part A pins: 1 SW (power) "The SW pin is the output of the internal power switch. Connect this pin to the inductor, catch diode and boost capacitor.", 2 BOOST "The BOOST pin is used to provide a drive voltage, higher than the input voltage, to the internal bipolar NPN power switch. Connect a boost capacitor from this pin to SW Pin.", 4 DA "Connect the catch diode (D1) anode to this pin. This pin is used to provide frequency foldback in extreme situations.", 5 GND (power) "Ground Pin.", 6 ~{SHDN} (in) "The S\H\D\N\ pin is used to put the LT3502 in shutdown mode. Tie to ground to shut down the LT3502/LT3502A. Tie to 2V or more for normal operation. If the shutdown feature is not used, tie this pin to the VIN pin. The (See Datasheet)", 7 FB (in) "The LT3502/LT3502A regulate their feedback pin to 0.8V. Connect the feedback resistor divider tap to this pin. Set the output voltage according to VOUT = 0.8 (1 + R1/R2). A good value for R2 is 10k.", 8 BD (power) "The BD pin is used to provide current to the internal boost Schottky diode.", 10 VIN (power) "The VIN pin supplies current to the LT3502/LT3502A’s internal regulator and to the internal power switch. This pin must be locally bypassed."
part B pins: 3 NC, 9 NC

## LT3502EMS#PBF
designator U?
1.1 MHz / 2.2 MHz, 500 mA Step-Down Regulator, 10-pin SOP (MS-10), -40 to 125 degC, Pb-Free; Manufacturer: Linear Technology; PartNumber: LT3502EMS#PBF; Number of Outputs: 1; PackageReference: MS-10; PackageDescription: 10-Pin Plastic MSOP, Body 3 x 3 mm, Pitch 0.5 mm; Supplier 1: Digi-Key; Supplier Part Number 1: LT3502EMS#PBF-ND; RoHS: TRUE
footprint LT-MS-10_N (SOP, 10-Leads, Body 3.1x3.1mm, Pitch 0.5mm, IPC Medium Density)
footprint LT-MS-10_L (SOP, 10-Leads, Body 3.1x3.1mm, Pitch 0.5mm, IPC High Density)
footprint LT-MS-10_M (SOP, 10-Leads, Body 3.1x3.1mm, Pitch 0.5mm, IPC Low Density)
part A pins: 1 SW (power) "The SW pin is the output of the internal power switch. Connect this pin to the inductor, catch diode and boost capacitor.", 2 BOOST "The BOOST pin is used to provide a drive voltage, higher than the input voltage, to the internal bipolar NPN power switch. Connect a boost capacitor from this pin to SW Pin.", 4 DA "Connect the catch diode (D1) anode to this pin. This pin is used to provide frequency foldback in extreme situations.", 5 GND (power) "Ground Pin.", 6 ~{SHDN} (in) "The S\H\D\N\ pin is used to put the LT3502 in shutdown mode. Tie to ground to shut down the LT3502/LT3502A. Tie to 2V or more for normal operation. If the shutdown feature is not used, tie this pin to the VIN pin. The (See Datasheet)", 7 FB (in) "The LT3502/LT3502A regulate their feedback pin to 0.8V. Connect the feedback resistor divider tap to this pin. Set the output voltage according to VOUT = 0.8 (1 + R1/R2). A good value for R2 is 10k.", 8 BD (power) "The BD pin is used to provide current to the internal boost Schottky diode.", 10 VIN (power) "The VIN pin supplies current to the LT3502/LT3502A’s internal regulator and to the internal power switch. This pin must be locally bypassed."
part B pins: 3 NC, 9 NC

## LT3502EMS#TR
designator U?
1.1 MHz / 2.2 MHz, 500 mA Step-Down Regulator, 10-pin SOP (MS-10), -40 to 125 degC, Tape and Reel; Manufacturer: Linear Technology; PartNumber: LT3502EMS#TR; Number of Outputs: 1; PackageReference: MS-10; PackageDescription: 10-Pin Plastic MSOP, Body 3 x 3 mm, Pitch 0.5 mm; RoHS: FALSE
footprint LT-MS-10_N (SOP, 10-Leads, Body 3.1x3.1mm, Pitch 0.5mm, IPC Medium Density)
footprint LT-MS-10_L (SOP, 10-Leads, Body 3.1x3.1mm, Pitch 0.5mm, IPC High Density)
footprint LT-MS-10_M (SOP, 10-Leads, Body 3.1x3.1mm, Pitch 0.5mm, IPC Low Density)
part A pins: 1 SW (power) "The SW pin is the output of the internal power switch. Connect this pin to the inductor, catch diode and boost capacitor.", 2 BOOST "The BOOST pin is used to provide a drive voltage, higher than the input voltage, to the internal bipolar NPN power switch. Connect a boost capacitor from this pin to SW Pin.", 4 DA "Connect the catch diode (D1) anode to this pin. This pin is used to provide frequency foldback in extreme situations.", 5 GND (power) "Ground Pin.", 6 ~{SHDN} (in) "The S\H\D\N\ pin is used to put the LT3502 in shutdown mode. Tie to ground to shut down the LT3502/LT3502A. Tie to 2V or more for normal operation. If the shutdown feature is not used, tie this pin to the VIN pin. The (See Datasheet)", 7 FB (in) "The LT3502/LT3502A regulate their feedback pin to 0.8V. Connect the feedback resistor divider tap to this pin. Set the output voltage according to VOUT = 0.8 (1 + R1/R2). A good value for R2 is 10k.", 8 BD (power) "The BD pin is used to provide current to the internal boost Schottky diode.", 10 VIN (power) "The VIN pin supplies current to the LT3502/LT3502A’s internal regulator and to the internal power switch. This pin must be locally bypassed."
part B pins: 3 NC, 9 NC

## LT3502EMS#TRPBF
designator U?
1.1 MHz / 2.2 MHz, 500 mA Step-Down Regulator, 10-pin SOP (MS-10), -40 to 125 degC, Pb-Free, Tape and Reel; Manufacturer: Linear Technology; PartNumber: LT3502EMS#TRPBF; Number of Outputs: 1; PackageReference: MS-10; PackageDescription: 10-Pin Plastic MSOP, Body 3 x 3 mm, Pitch 0.5 mm; Supplier 1: Digi-Key; Supplier Part Number 1: LT3502EMS#TRPBF-ND; RoHS: TRUE
footprint LT-MS-10_N (SOP, 10-Leads, Body 3.1x3.1mm, Pitch 0.5mm, IPC Medium Density)
footprint LT-MS-10_L (SOP, 10-Leads, Body 3.1x3.1mm, Pitch 0.5mm, IPC High Density)
footprint LT-MS-10_M (SOP, 10-Leads, Body 3.1x3.1mm, Pitch 0.5mm, IPC Low Density)
part A pins: 1 SW (power) "The SW pin is the output of the internal power switch. Connect this pin to the inductor, catch diode and boost capacitor.", 2 BOOST "The BOOST pin is used to provide a drive voltage, higher than the input voltage, to the internal bipolar NPN power switch. Connect a boost capacitor from this pin to SW Pin.", 4 DA "Connect the catch diode (D1) anode to this pin. This pin is used to provide frequency foldback in extreme situations.", 5 GND (power) "Ground Pin.", 6 ~{SHDN} (in) "The S\H\D\N\ pin is used to put the LT3502 in shutdown mode. Tie to ground to shut down the LT3502/LT3502A. Tie to 2V or more for normal operation. If the shutdown feature is not used, tie this pin to the VIN pin. The (See Datasheet)", 7 FB (in) "The LT3502/LT3502A regulate their feedback pin to 0.8V. Connect the feedback resistor divider tap to this pin. Set the output voltage according to VOUT = 0.8 (1 + R1/R2). A good value for R2 is 10k.", 8 BD (power) "The BD pin is used to provide current to the internal boost Schottky diode.", 10 VIN (power) "The VIN pin supplies current to the LT3502/LT3502A’s internal regulator and to the internal power switch. This pin must be locally bypassed."
part B pins: 3 NC, 9 NC

## LT3502IDC#PBF
designator U?
1.1 MHz / 2.2 MHz, 500 mA Step-Down Regulator, 8-pin SON (DC8), -40 to 125 degC, Pb-Free; Manufacturer: Linear Technology; PartNumber: LT3502IDC#PBF; Number of Outputs: 1; PackageReference: DC8; PackageDescription: 8-Pin Plastic DFN, Body 2 x 2 mm, Pitch 0.45 mm; RoHS: TRUE
footprint LT-DC8_V (SON, 8-Leads, Body 2x2mm, Pitch 0.45mm, Thermal Pad 1.37x0.64mm, Recommended)
pins: 1 VIN (power) "The VIN pin supplies current to the LT3502/LT3502A’s internal regulator and to the internal power switch. This pin must be locally bypassed.", 2 BD (power) "The BD pin is used to provide current to the internal boost Schottky diode.", 3 FB (in) "The LT3502/LT3502A regulate their feedback pin to 0.8V. Connect the feedback resistor divider tap to this pin. Set the output voltage according to VOUT = 0.8 (1 + R1/R2). A good value for R2 is 10k.", 4 ~{SHDN} (in) "The S\H\D\N\ pin is used to put the LT3502 in shutdown mode. Tie to ground to shut down the LT3502/LT3502A. Tie to 2V or more for normal operation. If the shutdown feature is not used, tie this pin to the VIN pin. The (See Datasheet)", 5 GND (power) "Ground Pin.", 6 DA "Connect the catch diode (D1) anode to this pin. This pin is used to provide frequency foldback in extreme situations.", 7 BOOST "The BOOST pin is used to provide a drive voltage, higher than the input voltage, to the internal bipolar NPN power switch. Connect a boost capacitor from this pin to SW Pin.", 8 SW (power) "The SW pin is the output of the internal power switch. Connect this pin to the inductor, catch diode and boost capacitor.", 9 EP (power) "EXPOSED PAD (PIN 9) IS GND, MUST BE SOLDERED TO PCB"